# Altium footprint library 8-pin_HEADER.PcbLib: 1 footprints
Each footprint in its own frame and in the unit in brackets; x right, y up, seen from the top. Pads: shape width x height; smd on the part's side, far side on the other; paste and mask are expansions set on the pad; w line width, h text height; cw(c..) or ccw(c..) is an arc to the next point about the centre after c.
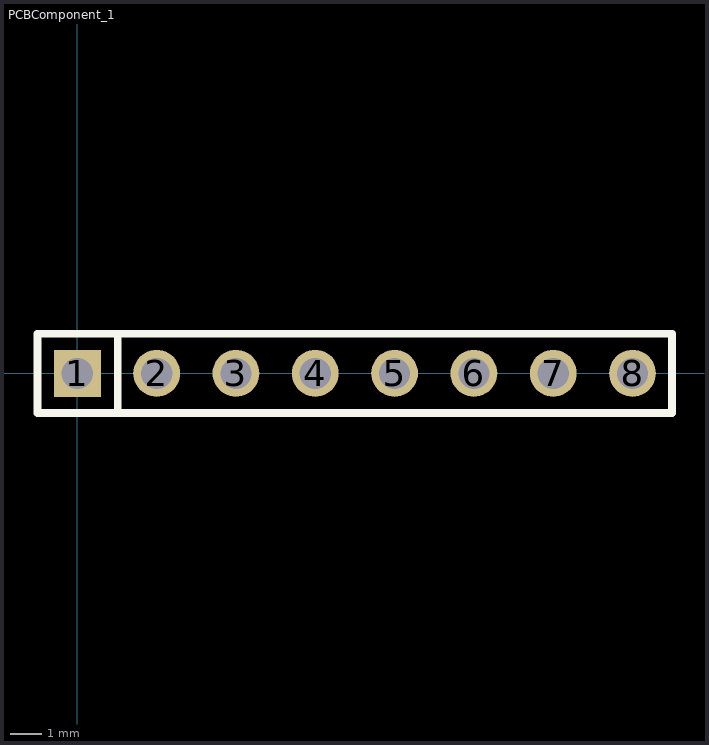
[diagram p0: the footprint, top view; thin cyan lines are the x and y axes]

## PCBComponent_1 [mm] "HDR-TH_8P-P2.54-V-M"
pads (8):
  rect 1.5x1.5 hole 1 paste-2539.97 mask+0.051: 1(0,0)
  round 1.5 hole 1 paste-2539.97 mask+0.051: 2(2.54,0) 3(5.08,0) 4(7.62,0) 5(10.16,0) 6(12.7,0) 7(15.24,0) 8(17.78,0)
Top Overlay:
  lines w0.254: 1.294,-1.27 1.294,1.27 ; -1.27,-1.27 -1.27,1.27 19.05,1.27 19.05,-1.27 -1.27,-1.27
Mechanical 15:
  region: 17.46,0.32 18.1,0.32 18.1,-0.32 17.46,-0.32
  region: 14.92,0.32 15.56,0.32 15.56,-0.32 14.92,-0.32
  region: 12.38,0.32 13.02,0.32 13.02,-0.32 12.38,-0.32
  region: 9.84,0.32 10.48,0.32 10.48,-0.32 9.84,-0.32
  region: 7.3,0.32 7.94,0.32 7.94,-0.32 7.3,-0.32
  region: 4.76,0.32 5.4,0.32 5.4,-0.32 4.76,-0.32
  region: 2.22,0.32 2.86,0.32 2.86,-0.32 2.22,-0.32
  region: -0.32,0.32 0.32,0.32 0.32,-0.32 -0.32,-0.32
  region: -1.21,-1.25 -1.21,-1.225 -1.245,-1.19 -1.295,-1.19 -1.33,-1.225 -1.33,-1.25 -1.33,-1.275 -1.295,-1.31 -1.245,-1.31 -1.21,-1.275
  lines w0.051: -1.27,-1.25 19.05,-1.25 19.05,1.25 -1.27,1.25 -1.27,-1.25
3D body "PinHeader_1x08_P2.54mm_Horizontal_SMD_Right.step": height 7.91, standoff -3.59, extent -1.25,-1.27 19.03,1.23